# EAGLE library part OWN_PARTS2_LTV845 (library ToWellPower_Logic)
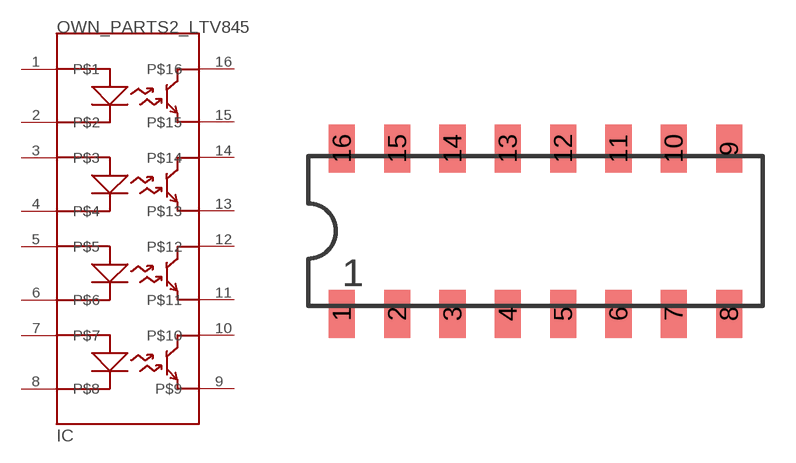
[diagram p2: symbol with the pads of OWN_PARTS2_DIP16; footprint OWN_PARTS2_DIP16]

Designator prefix IC

## OWN_PARTS2_LTV845  [OWN_PARTS2_DIP16]
1  P$1
2  P$2
3  P$3
4  P$4
5  P$5
6  P$6
7  P$7
8  P$8
9  P$9
10  P$10
11  P$11
12  P$12
13  P$13
14  P$14
15  P$15
16  P$16

## Footprint OWN_PARTS2_DIP16 (pad centres in mm)
SMD DIL16 dual in line package
smd 1.2 x 2.2: 1 -8.89,-3.8; 2 -6.35,-3.8; 3 -3.81,-3.8; 4 -1.27,-3.8; 5 1.27,-3.8; 6 3.81,-3.8; 7 6.35,-3.8; 8 8.89,-3.8; 9 8.89,3.8; 10 6.35,3.8; 11 3.81,3.8; 12 1.27,3.8; 13 -1.27,3.8; 14 -3.81,3.8; 15 -6.35,3.8; 16 -8.89,3.8